# Altium schematic symbol library ST_GND_Sch.SchLib: 106 symbols
Pins are listed as number, name and electrical type; pins without a type are passive.

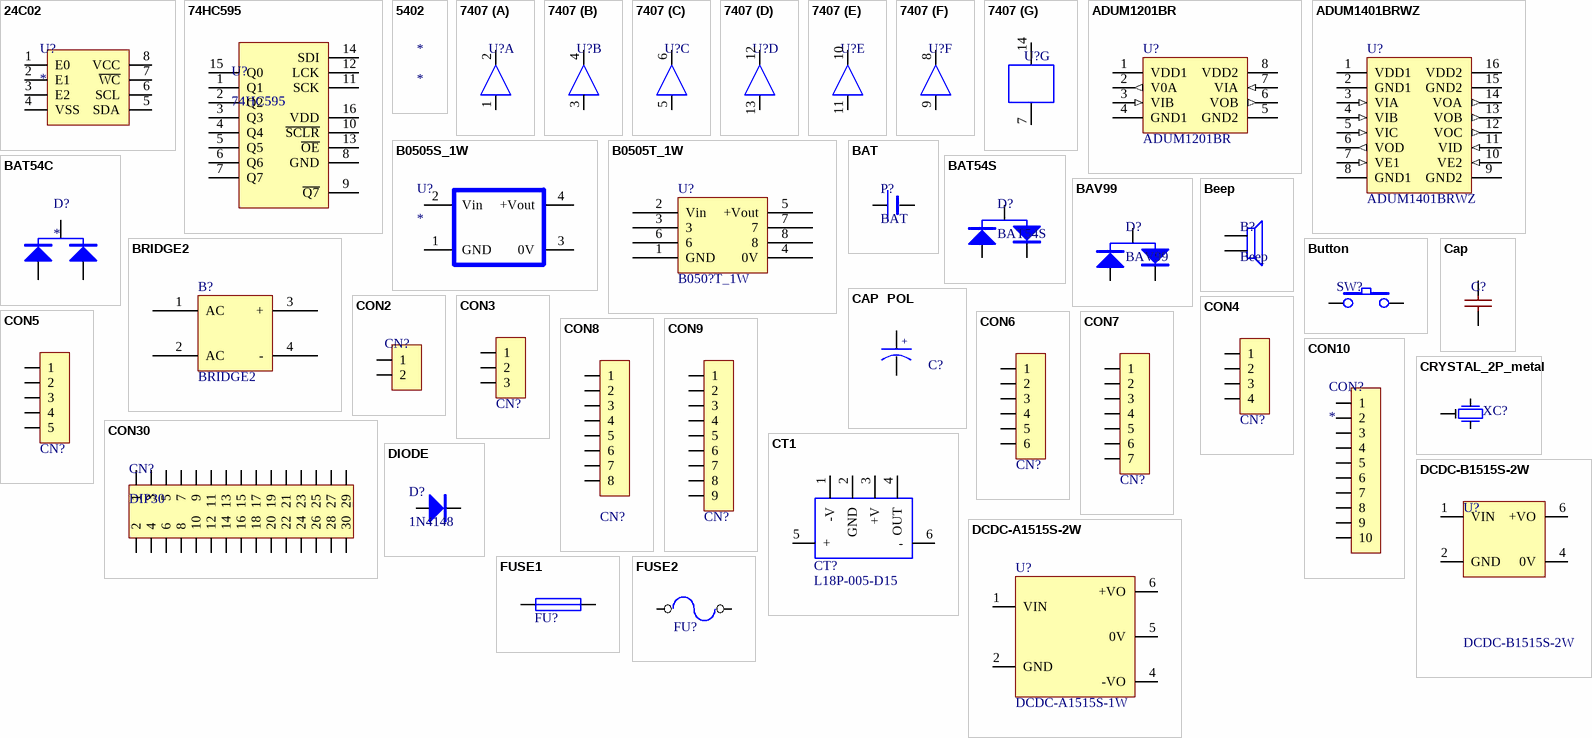
[diagram p0: symbols 24C02 to FUSE2]

## 24C02
designator U?
存储芯片
footprint 运放SO8 (Smal)
pins: 1 E0, 2 E1, 3 E2, 4 VSS, 5 SDA, 6 SCL, 7 ~{WC}, 8 VCC

## 74HC595
designator U?
集成块
footprint 运放SOP16 (Small Outli)
footprint TSSOP16_44MM_065P
pins: 1 Q1, 2 Q2, 3 Q3, 4 Q4, 5 Q5, 6 Q6, 7 Q7, 8 GND, 9 ~{Q7}, 10 ~{SCLR}, 11 SCK, 12 LCK, 13 ~{OE}, 14 SDI, 15 Q0, 16 VDD

## 5402
designator *

## 7407
designator U?
电平转换; 研究所: *
footprint 运放SO14 (Smal)
part A pins: 1 A1, 2 Y1
part B pins: 3, 4
part C pins: 5 A3, 6 Y3
part D pins: 12 Y6, 13 A6
part E pins: 10 Y5, 11 A5
part F pins: 8 Y4, 9 A4
part G pins: 7 GND, 14 VCC

## ADUM1201BR
designator U?
Quad-Channel Digital Isolators; 编号: B00212; 名称: 贴装芯片_ADUM1201BR
footprint SOIC127P600X175-8M
pins: 1 VDD1 (power), 2 V0A (out), 3 VIB (in), 4 GND1 (power), 5 GND2 (power), 6 VOB (out), 7 VIA (in), 8 VDD2 (power)

## ADUM1401BRWZ
designator U?
Quad-Channel Digital Isolators; 编号: B00174; 名称: 贴装芯片_ADUM1401BRWZ
footprint SOIC127P1030X265-16M
pins: 1 VDD1 (power), 2 GND1 (power), 3 VIA (in), 4 VIB (in), 5 VIC (in), 6 VOD (out), 7 VE1 (in), 8 GND1 (power), 9 GND2 (power), 10 VE2 (in), 11 VID (in), 12 VOC (out), 13 VOB (out), 14 VOA (out), 15 GND2 (power), 16 VDD2 (power)

## B0505S_1W
designator U?
footprint B0505S_1W
pins: 1 GND, 2 Vin, 3 0V, 4 +Vout

## B0505T_1W
designator U?, comment B050?T_1W
footprint B_X_T_1W (1WDC-DC模块)
pins: 1 GND, 2 Vin, 3, 4 0V, 5 +Vout, 6, 7, 8

## BAT
designator P?
footprint CR1220
footprint CR1220
pins: 1 +, 2 -

## BAT54C
designator D?
footprint SOT-23
pins: 1, 2, 3

## BAT54S
designator D?
保护二极管
footprint SOT-23
pins: 1, 2, 3

## BAV99
designator D?
保护二极管
footprint SOT-23
pins: 1, 2, 3

## Beep
designator B?
蜂鸣器
footprint BEEP (12*9)
pins: 1, 2

## BRIDGE2
designator B?
整流桥
footprint 桥堆 407
footprint 桥堆GBJ250X
footprint 桥堆KBPC250X
pins: 1 AC, 2 AC, 3 +, 4 -

## Button
designator SW?  (value not drawn)
按键12*12*7.3
footprint 按键12*12*7.3
footprint SW2_12x12 (欧姆龙按钮)
footprint SW4 (按钮侧立式)
pins: 1, 2

## Cap
designator C?
footprint 电容5
pins: 1, 2

## CAP  POL
designator C?
电解电容; Value: R1HCX010MT50
footprint 电解电容-5
footprint 电解电容-2200
footprint Case B (CaseB_3528)
footprint HONOR_10X105 (贴装铝电解)
footprint HONOR_63X54
footprint CASE C
footprint 电解电容 18*18
footprint 电解电容-10
footprint 电解电容-12
footprint 电解电容10-1
footprint Case D (CaseD_7343)
footprint CASE A (3216)
pins: 1, 2
text: +

## CON2
designator CN?
连接器; 松下: B2PVHB
footprint 连接器DD2
footprint WJ128V-2P
footprint WJ15EDGRM-3.81-2P-14-00A
pins: 1, 2

## CON3
designator CN?
连接器; 松下: B3PVHB
footprint 连接器DD3
footprint WJ128V-3P
footprint 连接器3X
footprint WJ15EDGRM-3.81-3P-14-00A (3.81间距端子 3p)
footprint DIP3
pins: 1, 2, 3

## CON4
designator CN?
连接器; 松下: B4PVHB
footprint 连接器DD4
footprint WJ15EDGRM-3.81-4P-14-00A
pins: 1, 2, 3, 4

## CON5
designator CN?
连接器; 松下: B5PVHB; 松下: B5BXH2TV4
footprint 连接器DD5
footprint 连接器5X
footprint WJ15EDGRM-3.81-5P
pins: 1, 2, 3, 4, 5

## CON6
designator CN?
连接器; 松下: B6BXH2TV4; 松下: B6PVHB
footprint 连接器DD6
footprint 连接器6X
footprint WJ15EDGRM-3.81-6P
pins: 1, 2, 3, 4, 5, 6

## CON7
designator CN?
连接器; 松下: B7PVHB; 松下: B6BXH2TV4
footprint 连接器DD7
footprint 连接器7X
footprint WJ15EDGRM-3.81-7P
pins: 1, 2, 3, 4, 5, 6, 7

## CON8
designator CN?
连接器; 松下: B9PVHB
footprint 连接器8X
footprint WJ15EDGRM-3.81-8P
pins: 1, 2, 3, 4, 5, 6, 7, 8

## CON9
designator CN?
连接器; 松下: B9PVHB
footprint 连接器DD9
footprint 连接器9X
pins: 1, 2, 3, 4, 5, 6, 7, 8, 9

## CON10
designator CON?
footprint WJ15EDGRM-3.81-10P
pins: 1, 2, 3, 4, 5, 6, 7, 8, 9, 10

## CON30
designator CN?, comment DIP30
自检接口
footprint DIP15*2
pins: 1, 2, 3, 4, 5, 6, 7, 8, 9, 10, 11, 12, 13, 14, 15, 16, 17, 18, 19, 20, 21, 22, 23, 24, 25, 26, 27, 28, 29, 30

## CRYSTAL_2P_metal
designator XC?, comment Farnell order no:1539364  (value not drawn)
32k768 crystal, +-20ppm, CL=7pF, max ESR 60kOhm, SMD; PartGroup: Frequency devices,Crystals,SMD; Manufacturer: Micro Crystal; MPN: MS1V-T1K 32.768kHz 7pF +/-20PPM TA; AN: A07-0052; Tolerance: +/- 20 PPM; TemperatureRange: -40 /+85; Height: 2.07999992370605
footprint 32.768k
pins: 1, 2, 3

## CT1
designator CT?, comment L18P-005-D15
电流传感器
footprint CT - L18P005
pins: 1 -V, 2 GND, 3 +V, 4 OUT, 5 +, 6 -

## DCDC-A1515S-2W
designator U?, comment DCDC-A1515S-1W
隔离电源模块
footprint DCDC-AS2W
pins: 1 VIN, 2 GND, 4 -VO, 5 0V, 6 +VO

## DCDC-B1515S-2W
designator U?
隔离电源模块
footprint DCDC-BS2W
pins: 1 VIN, 2 GND, 4 0V, 6 +VO

## DIODE
designator D?, comment 1N4148
二极管
footprint 二极管SOD-123
footprint 发光二极管0805
footprint 二极管SMA (Magnetic-Core Inductor with Windin)
footprint MUR
footprint 二极管12AK
footprint 二极管SMC
pins: A, K

## FUSE1
designator FU?  (value not drawn)
保险
footprint BX
footprint BLX5*20
footprint RAD0.2 (压敏电阻10d)
pins: 1, 2

## FUSE2
designator FU?  (value not drawn)
可恢复保险
footprint 0805_SMD_R
footprint 1210
pins: 1, 2

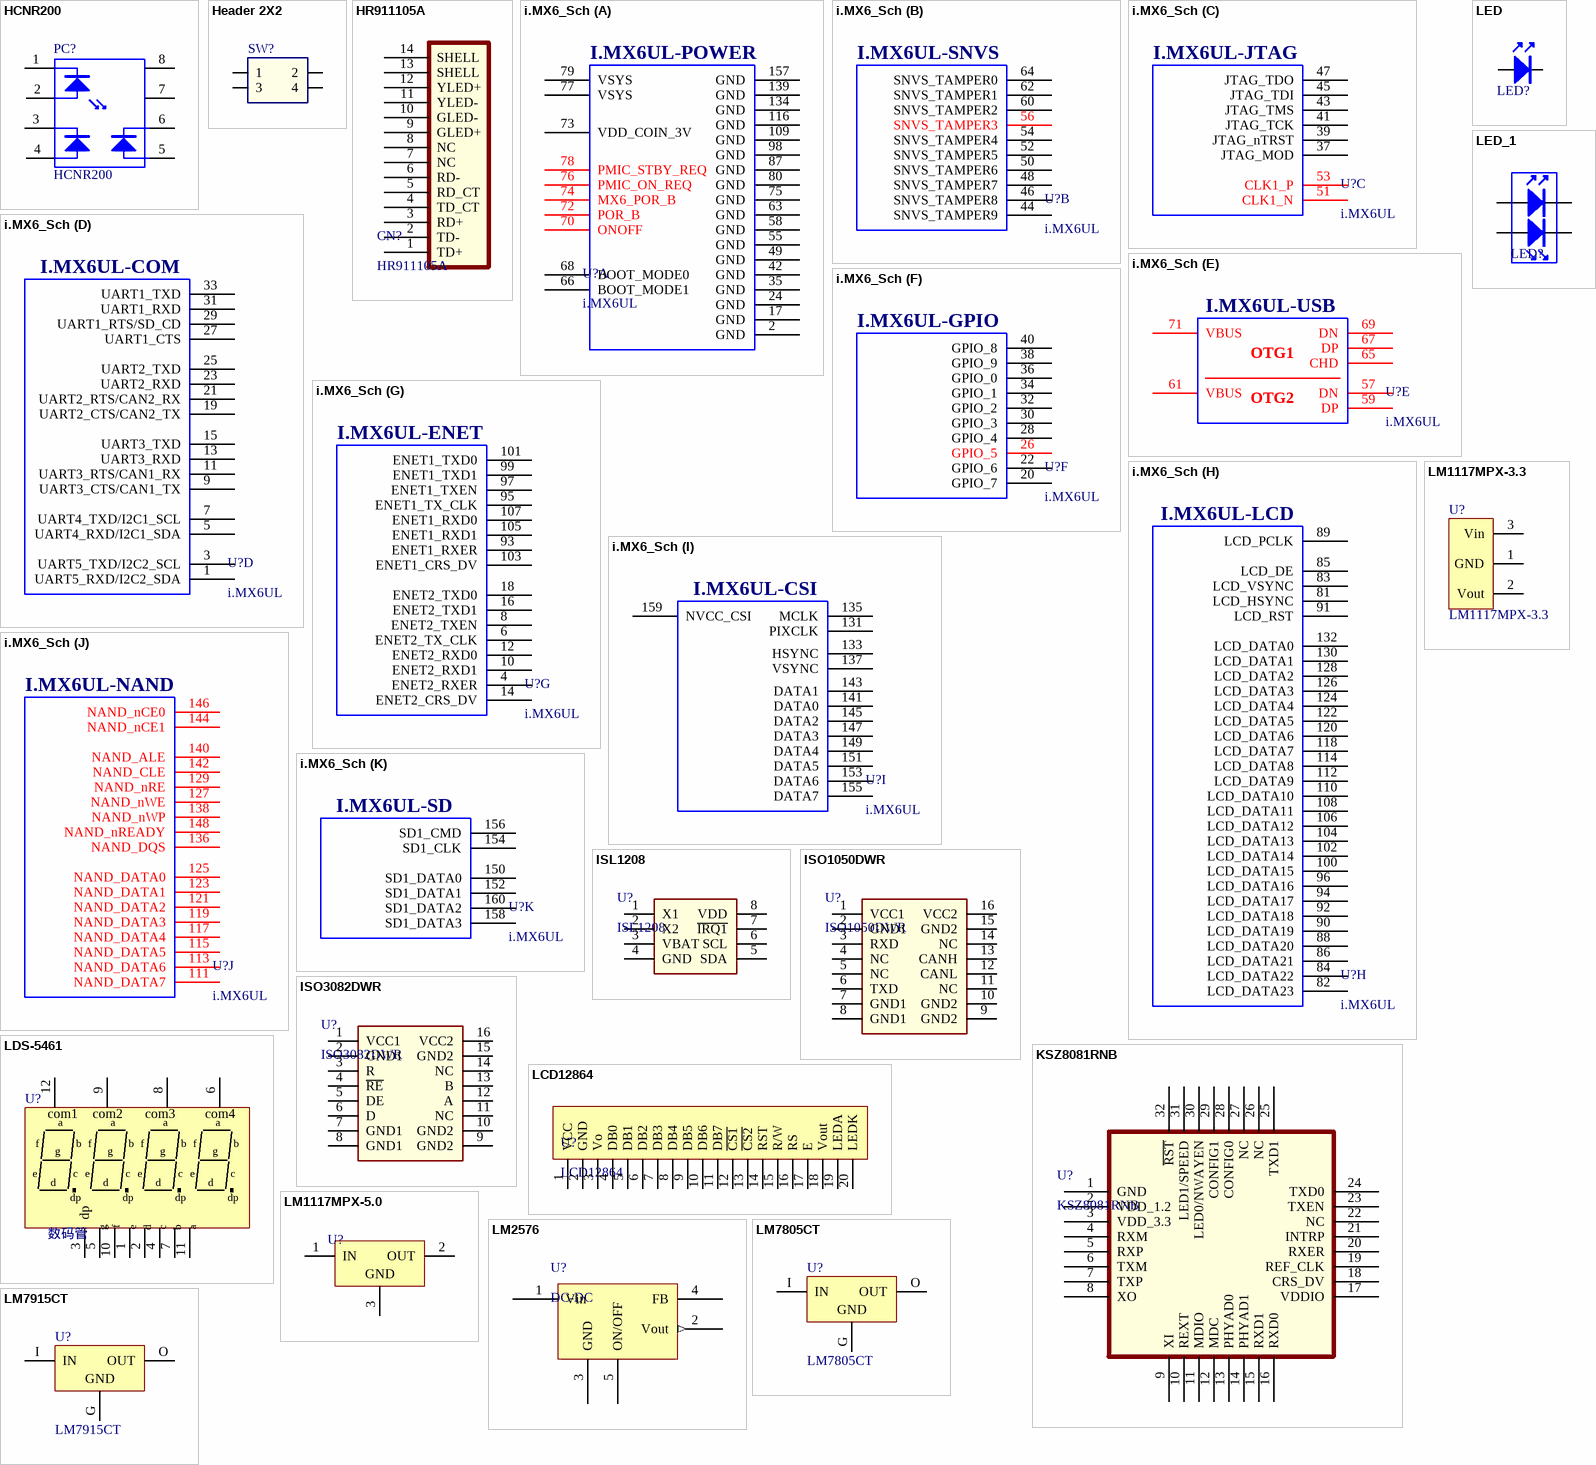
[diagram p1: symbols HCNR200 to LM7915CT]

## HCNR200
designator PC?
线性光耦
footprint HCNR200
pins: 1, 2, 3, 4, 5, 6, 7 NC, 8 NC

## Header 2X2
designator SW?  (value not drawn)
Header, 2-Pin, Dual row; LatestRevisionDate: 17-Jul-2002; LatestRevisionNote: Re-released for DXP Platform.; Publisher: Altium Limited
footprint HDR2X2 (Connector; Header; 2x2 Position)
signal-integrity model Connector
footprint 开关2-2
footprint Model Name (Footprint not found)
pins: 1, 2, 3, 4

## HR911105A
designator CN?
footprint RJ-45A12
pins: 1 TD+, 2 TD-, 3 RD+, 4 TD_CT, 5 RD_CT, 6 RD-, 7 NC, 8 NC, 9 GLED+, 10 GLED-, 11 YLED-, 12 YLED+, 13 SHELL, 14 SHELL

## i.MX6_Sch
designator U?, comment i.MX6UL
footprint i.MX6_PCB
part A pins: 2 GND, 17 GND, 24 GND, 35 GND, 42 GND, 49 GND, 55 GND, 58 GND, 63 GND, 66 BOOT_MODE1, 68 BOOT_MODE0, 70 ONOFF, 72 POR_B, 73 VDD_COIN_3V, 74 MX6_POR_B, 75 GND, 76 PMIC_ON_REQ, 77 VSYS, 78 PMIC_STBY_REQ, 79 VSYS, 80 GND, 87 GND, 98 GND, 109 GND, 116 GND, 134 GND, 139 GND, 157 GND
part B pins: 44 SNVS_TAMPER9, 46 SNVS_TAMPER8, 48 SNVS_TAMPER7, 50 SNVS_TAMPER6, 52 SNVS_TAMPER5, 54 SNVS_TAMPER4, 56 SNVS_TAMPER3, 60 SNVS_TAMPER2, 62 SNVS_TAMPER1, 64 SNVS_TAMPER0
part C pins: 37 JTAG_MOD, 39 JTAG_nTRST, 41 JTAG_TCK, 43 JTAG_TMS, 45 JTAG_TDI, 47 JTAG_TDO, 51 CLK1_N, 53 CLK1_P
part D pins: 1 UART5_RXD/I2C2_SDA, 3 UART5_TXD/I2C2_SCL, 5 UART4_RXD/I2C1_SDA, 7 UART4_TXD/I2C1_SCL, 9 UART3_CTS/CAN1_TX, 11 UART3_RTS/CAN1_RX, 13 UART3_RXD, 15 UART3_TXD, 19 UART2_CTS/CAN2_TX, 21 UART2_RTS/CAN2_RX, 23 UART2_RXD, 25 UART2_TXD, 27 UART1_CTS, 29 UART1_RTS/SD_CD, 31 UART1_RXD, 33 UART1_TXD
part E pins: 57 DN, 59 DP, 61 VBUS, 65 CHD, 67 DP, 69 DN, 71 VBUS
part F pins: 20 GPIO_7, 22 GPIO_6, 26 GPIO_5, 28 GPIO_4, 30 GPIO_3, 32 GPIO_2, 34 GPIO_1, 36 GPIO_0, 38 GPIO_9, 40 GPIO_8
part G pins: 4 ENET2_RXER, 6 ENET2_TX_CLK, 8 ENET2_TXEN, 10 ENET2_RXD1, 12 ENET2_RXD0, 14 ENET2_CRS_DV, 16 ENET2_TXD1, 18 ENET2_TXD0, 93 ENET1_RXER, 95 ENET1_TX_CLK, 97 ENET1_TXEN, 99 ENET1_TXD1, 101 ENET1_TXD0, 103 ENET1_CRS_DV, 105 ENET1_RXD1, 107 ENET1_RXD0
part H pins: 81 LCD_HSYNC, 82 LCD_DATA23, 83 LCD_VSYNC, 84 LCD_DATA22, 85 LCD_DE, 86 LCD_DATA21, 88 LCD_DATA20, 89 LCD_PCLK, 90 LCD_DATA19, 91 LCD_RST, 92 LCD_DATA18, 94 LCD_DATA17, 96 LCD_DATA16, 100 LCD_DATA15, 102 LCD_DATA14, 104 LCD_DATA13, 106 LCD_DATA12, 108 LCD_DATA11, 110 LCD_DATA10, 112 LCD_DATA9, 114 LCD_DATA8, 118 LCD_DATA7, 120 LCD_DATA6, 122 LCD_DATA5, 124 LCD_DATA4, 126 LCD_DATA3, 128 LCD_DATA2, 130 LCD_DATA1, 132 LCD_DATA0
part I pins: 131 PIXCLK, 133 HSYNC, 135 MCLK, 137 VSYNC, 141 DATA0, 143 DATA1, 145 DATA2, 147 DATA3, 149 DATA4, 151 DATA5, 153 DATA6, 155 DATA7, 159 NVCC_CSI
part J pins: 111 NAND_DATA7, 113 NAND_DATA6, 115 NAND_DATA5, 117 NAND_DATA4, 119 NAND_DATA3, 121 NAND_DATA2, 123 NAND_DATA1, 125 NAND_DATA0, 127 NAND_nWE, 129 NAND_nRE, 136 NAND_DQS, 138 NAND_nWP, 140 NAND_ALE, 142 NAND_CLE, 144 NAND_nCE1, 146 NAND_nCE0, 148 NAND_nREADY
part K pins: 150 SD1_DATA0, 152 SD1_DATA1, 154 SD1_CLK, 156 SD1_CMD, 158 SD1_DATA3, 160 SD1_DATA2
part A text: I.MX6UL-POWER
part B text: I.MX6UL-SNVS
part C text: I.MX6UL-JTAG
part D text: I.MX6UL-COM
part E text: I.MX6UL-USB; OTG1; OTG2
part F text: I.MX6UL-GPIO
part G text: I.MX6UL-ENET
part H text: I.MX6UL-LCD
part I text: I.MX6UL-CSI
part J text: I.MX6UL-NAND
part K text: I.MX6UL-SD

## ISL1208
designator U?
时钟芯片
footprint 运放SO8 (Smal)
pins: 1 X1, 2 X2, 3 VBAT, 4 GND, 5 SDA, 6 SCL, 7 ~{IR}~{Q1}, 8 VDD

## ISO1050DWR
designator U?
CAN隔离芯片
footprint SOIC_16
pins: 1 VCC1, 2 GND1, 3 RXD, 4 NC, 5 NC, 6 TXD, 7 GND1, 8 GND1, 9 GND2, 10 GND2, 11 NC, 12 CANL, 13 CANH, 14 NC, 15 GND2, 16 VCC2

## ISO3082DWR
designator U?
485隔离芯片
footprint SOIC_16
pins: 1 VCC1, 2 GND1, 3 R, 4 ~{RE}, 5 DE, 6 D, 7 GND1, 8 GND1, 9 GND2, 10 GND2, 11 NC, 12 A, 13 B, 14 NC, 15 GND2, 16 VCC2

## KSZ8081RNB
designator U?
footprint LC-QFN-32_5x5x05P
pins: 1 GND, 2 VDD_1.2, 3 VDD_3.3 (power), 4 RXM, 5 RXP, 6 TXM, 7 TXP, 8 XO, 9 XI, 10 REXT, 11 MDIO, 12 MDC, 13 PHYAD0, 14 PHYAD1, 15 RXD1, 16 RXD0, 17 VDDIO, 18 CRS_DV, 19 REF_CLK, 20 RXER, 21 INTRP, 22 NC, 23 TXEN, 24 TXD0, 25 TXD1, 26 NC, 27 NC, 28 CONFIG0, 29 CONFIG1, 30 LED0/NWAYEN, 31 LED1/SPEED, 32 ~{RST}

## LCD12864
designator U?
footprint 12864液晶
pins: 1 VCC (power), 2 GND (power), 3 Vo, 4 DB0, 5 DB1, 6 DB2, 7 DB3, 8 DB4, 9 DB5, 10 DB6, 11 DB7, 12 ~{CS1}, 13 ~{CS2}, 14 RST, 15 R/W, 16 RS, 17 E, 18 Vout (power), 19 LEDA, 20 LEDK

## LDS-5461
designator U?, comment 数码管
数码管8位共阴
footprint 数码管共阴4位
pins: 1 e, 2 d, 3 dp, 4 c, 5 g, 6 com4, 7 b, 8 com3, 9 com2, 10 f, 11 a, 12 com1

## LED
designator LED?  (value not drawn)
发光二极管
footprint 发光二极管
footprint LED_0805
footprint 发光二极管0805
footprint 1206 -LED
pins: A, K

## LED_1
designator LED?  (value not drawn)
发光二极管
footprint DIP LED (双led)
pins: 1, 2, 3, 4

## LM1117MPX-3.3
designator U?
LM1117 3.3V固定输出; 编号: B00004; 名称: 贴装芯片_LM1117MPX-3.3
footprint SOT-223
pins: 1 GND, 2 Vout, 3 Vin

## LM1117MPX-5.0
designator U?  (value not drawn)
贴片三端稳压芯片; 研究所: LM1117MPX-5.0
footprint SOT-223
pins: 1 IN (power), 2 OUT (power), 3 GND (power)

## LM2576
designator U?, comment DC-DC
footprint TO-263-5L
pins: 1 Vin (power), 2 Vout (out), 3 GND (power), 4 FB, 5 ON/OFF

## LM7805CT
designator U?
Series 3-Terminal Positive Regulator; Note: Tab is connected to GND; Published: 15-Apr-2002; DatasheetVersion: May-1999; PackageVersion: 1995; PackageReference: T03B; Publisher: Altium Limited; PackageDescription: TO, Thru-Hole, Vertical, Heatsink Mounted; 3 In-Line Leads; Pitch 2.54 mm; ComponentLink1Description: Manufacturer Link; ComponentLink1URL: http://www.national.com/; ComponentLink2Description: Datasheet; ComponentLink2URL: http://www.national.com/ds.cgi/LM/LM7512C.pdf; ComponentLink3Description: URL Link1; ComponentLink3URL: http://www.national.com/pf/LM/LM7805C.html
footprint 稳压块-S-78XX
footprint 稳压块-78XX
footprint K7805
pins: G GND (power), I IN (power), O OUT (power)

## LM7915CT
designator U?
3-Terminal Negative Regulator; Note: Tab is connected to Input; Published: 15-Apr-2002; DatasheetVersion: Jun-1999; PackageVersion: 1995; PackageReference: T03B; Publisher: Altium Limited; PackageDescription: TO, Thru-Hole, Vertical, Heatsink Mounted; 3 In-Line Leads; Pitch 2.54 mm; ComponentLink1Description: Manufacturer Link; ComponentLink1URL: http://www.national.com/; ComponentLink2Description: Datasheet; ComponentLink2URL: http://www.national.com/ds.cgi/LM/LM7905.pdf; ComponentLink3Description: URL Link1; ComponentLink3URL: http://www.national.com/pf/LM/LM7915.html
footprint 稳压块-S-79XX
footprint 稳压块79XX
pins: G GND (power), I IN (power), O OUT (power)

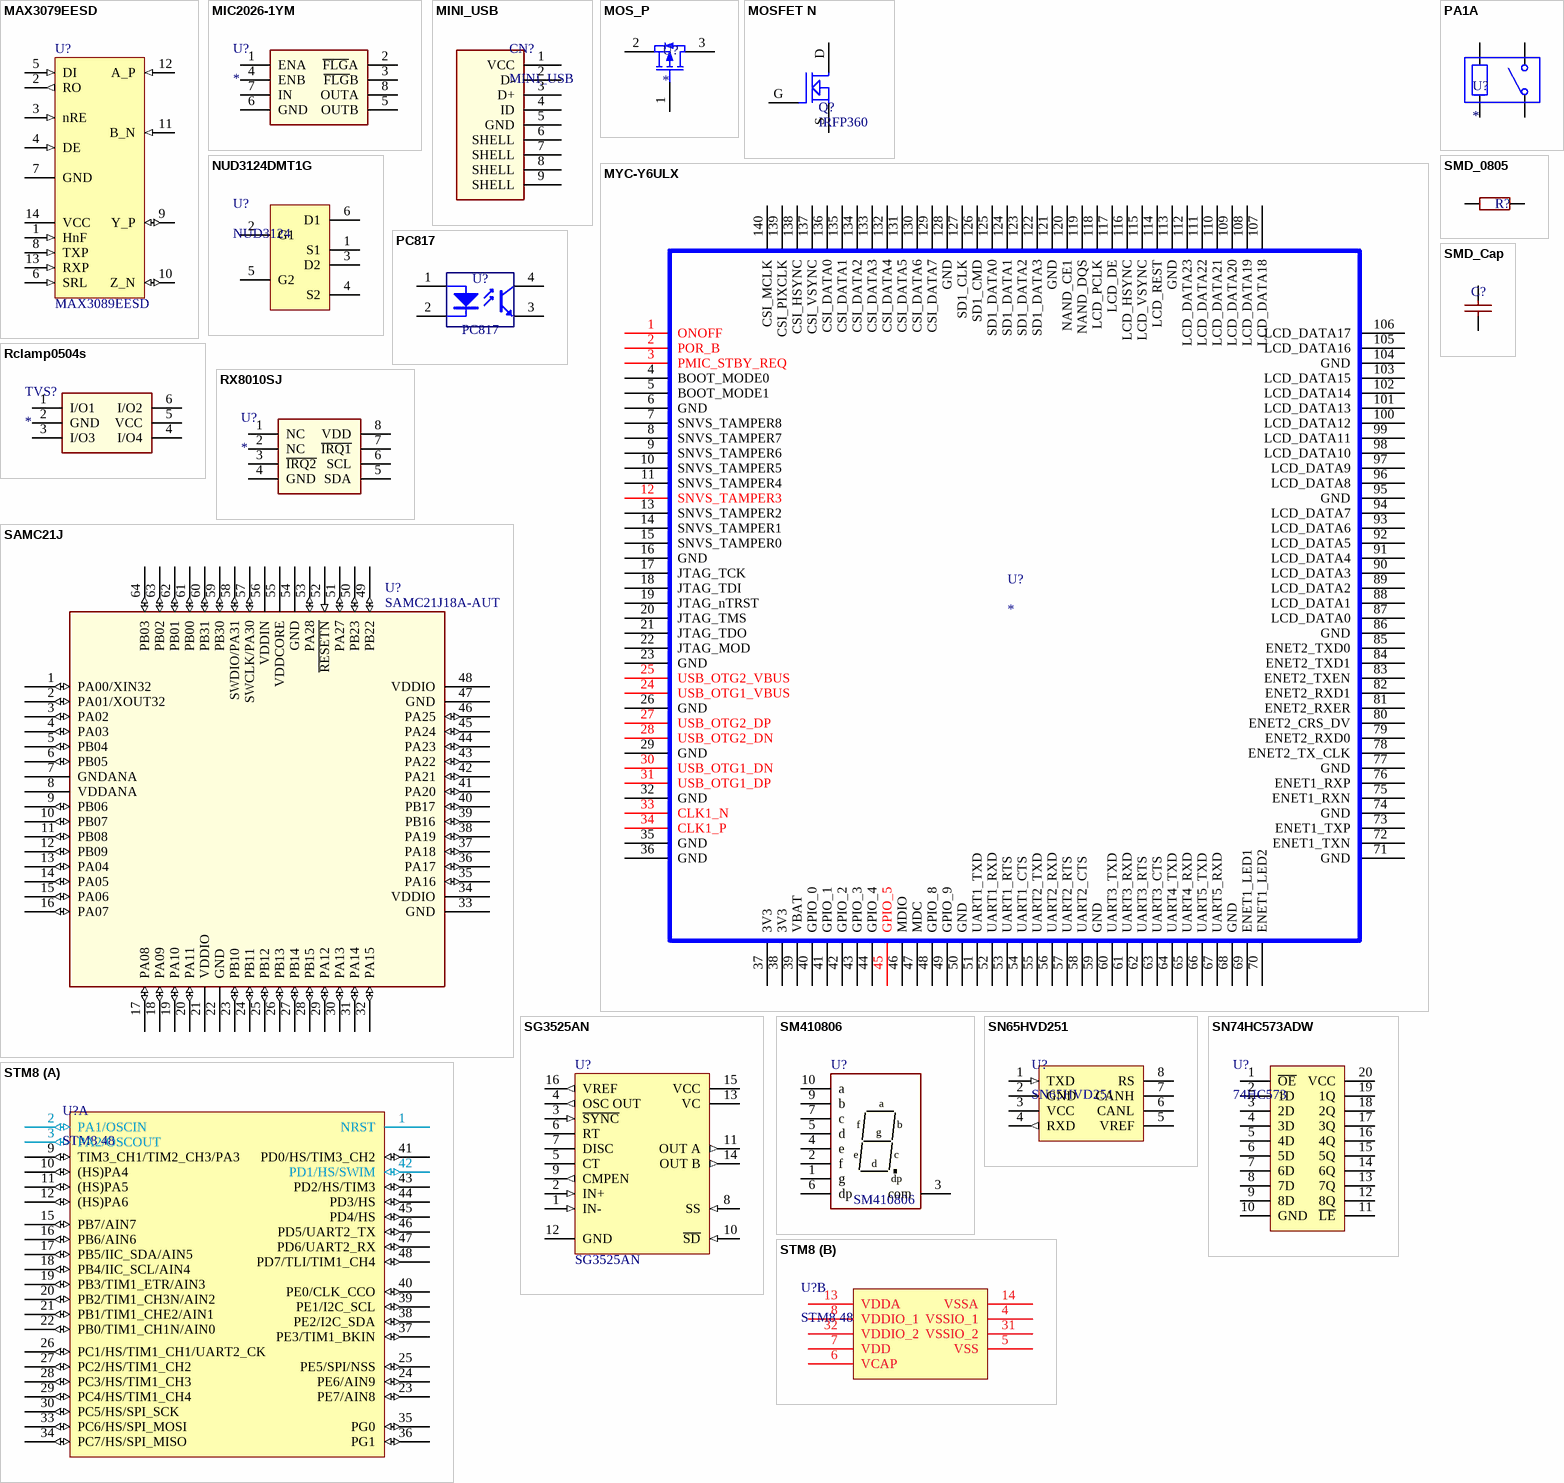
[diagram p2: symbols MAX3079EESD to STM8]

## MAX3079EESD
designator U?, comment MAX3089EESD
贴装芯片_MAX3089EESD; 名称: 贴装芯片_MAX3089EESD
footprint 运放SO14 (Smal)
pins: 1 HnF (in), 2 RO (out), 3 nRE (in), 4 DE (in), 5 DI (in), 6 SRL (in), 7 GND (power), 8 TXP (in), 9 Y_P (io), 10 Z_N (io), 11 B_N (in), 12 A_P (in), 13 RXP (in), 14 VCC (power)

## MIC2026-1YM
designator U?
footprint 运放SO8 (Smal)
pins: 1 ENA, 2 ~{FLG}A, 3 ~{FLG}B, 4 ENB, 5 OUTB, 6 GND, 7 IN, 8 OUTA

## MINI_USB
designator CN?
footprint MiNi_USB
footprint MICRO_USB
footprint MICRO-USB-F (立式USB座)
pins: 1 VCC (power), 2 D-, 3 D+, 4 ID, 5 GND (power), 6 SHELL, 7 SHELL, 8 SHELL, 9 SHELL

## MOS_P
designator U?
footprint SOT-23
pins: 1 G, 2 S, 3 D

## MOSFET N
designator Q?, comment IRFP360
MOS管
footprint 稳压块-S-MOS
footprint TO-252-2L
footprint 稳压块-MOS
footprint S-MOS大散热器
footprint 稳压块-S-MOS-540
footprint SOT-23 - MOS
pins: D DRAIN, G GATE, S SOURCE

## MYC-Y6ULX
designator U?
footprint MYIMX6
pins: 1 ONOFF, 2 POR_B, 3 PMIC_STBY_REQ, 4 BOOT_MODE0, 5 BOOT_MODE1, 6 GND, 7 SNVS_TAMPER8, 8 SNVS_TAMPER7, 9 SNVS_TAMPER6, 10 SNVS_TAMPER5, 11 SNVS_TAMPER4, 12 SNVS_TAMPER3, 13 SNVS_TAMPER2, 14 SNVS_TAMPER1, 15 SNVS_TAMPER0, 16 GND, 17 JTAG_TCK, 18 JTAG_TDI, 19 JTAG_nTRST, 20 JTAG_TMS, 21 JTAG_TDO, 22 JTAG_MOD, 23 GND, 24 USB_OTG1_VBUS, 25 USB_OTG2_VBUS, 26 GND, 27 USB_OTG2_DP, 28 USB_OTG2_DN, 29 GND, 30 USB_OTG1_DN, 31 USB_OTG1_DP, 32 GND, 33 CLK1_N, 34 CLK1_P, 35 GND, 36 GND, 37 3V3, 38 3V3, 39 VBAT, 40 GPIO_0, 41 GPIO_1, 42 GPIO_2, 43 GPIO_3, 44 GPIO_4, 45 GPIO_5, 46 MDIO, 47 MDC, 48 GPIO_8, 49 GPIO_9, 50 GND, 51 UART1_TXD, 52 UART1_RXD, 53 UART1_RTS, 54 UART1_CTS, 55 UART2_TXD, 56 UART2_RXD, 57 UART2_RTS, 58 UART2_CTS, 59 GND, 60 UART3_TXD, 61 UART3_RXD, 62 UART3_RTS, 63 UART3_CTS, 64 UART4_TXD, 65 UART4_RXD, 66 UART5_TXD, 67 UART5_RXD, 68 GND, 69 ENET1_LED1, 70 ENET1_LED2, 71 GND, 72 ENET1_TXN, 73 ENET1_TXP, 74 GND, 75 ENET1_RXN, 76 ENET1_RXP, 77 GND, 78 ENET2_TX_CLK, 79 ENET2_RXD0, 80 ENET2_CRS_DV, 81 ENET2_RXER, 82 ENET2_RXD1, 83 ENET2_TXEN, 84 ENET2_TXD1, 85 ENET2_TXD0, 86 GND, 87 LCD_DATA0, 88 LCD_DATA1, 89 LCD_DATA2, 90 LCD_DATA3, 91 LCD_DATA4, 92 LCD_DATA5, 93 LCD_DATA6, 94 LCD_DATA7, 95 GND, 96 LCD_DATA8, 97 LCD_DATA9, 98 LCD_DATA10, 99 LCD_DATA11, 100 LCD_DATA12, 101 LCD_DATA13, 102 LCD_DATA14, 103 LCD_DATA15, 104 GND, 105 LCD_DATA16, 106 LCD_DATA17, 107 LCD_DATA18, 108 LCD_DATA19, 109 LCD_DATA20, 110 LCD_DATA21, 111 LCD_DATA22, 112 LCD_DATA23, 113 GND, 114 LCD_REST, 115 LCD_VSYNC, 116 LCD_HSYNC, 117 LCD_DE, 118 LCD_PCLK, 119 NAND_DQS, 120 NAND_CE1, 121 GND, 122 SD1_DATA3, 123 SD1_DATA2, 124 SD1_DATA1, 125 SD1_DATA0, 126 SD1_CMD, 127 SD1_CLK, 128 GND, 129 CSI_DATA7, 130 CSI_DATA6, 131 CSI_DATA5, 132 CSI_DATA4, 133 CSI_DATA3, 134 CSI_DATA2, 135 CSI_DATA1, 136 CSI_DATA0, 137 CSI_VSYNC, 138 CSI_HSYNC, 139 CSI_PIXCLK, 140 CSI_MCLK

## NUD3124DMT1G
designator U?, comment NUD3124
footprint SC74-6L
pins: 1 S1, 2 G1, 3 D2, 4 S2, 5 G2, 6 D1

## PA1A
designator U?
footprint PA1A (5V继电器)
pins: 1, 2, 3, 4

## PC817
designator U?
光耦
footprint SO6
pins: 1, 2, 3, 4

## Rclamp0504s
designator TVS?
footprint SC70-6L
pins: 1 I/O1, 2 GND, 3 I/O3, 4 I/O4, 5 VCC, 6 I/O2

## RX8010SJ
designator U?
footprint 运放SO8 (Smal)
pins: 1 NC, 2 NC, 3 ~{IRQ2}, 4 GND, 5 SDA, 6 SCL, 7 ~{IR}~{Q1}, 8 VDD

## SAMC21J
designator U?  value SAMC21J18A-AUT  (hidden comment: SAMC21J)
Atmel 32-bit RISC MCU 64pin; PartGroup: Integrated Circuits,MCU, MPU, DSP,ARM MCU; AN: A06-1192; TemperatureRange: -40Â°C to +105Â°C; Design comment: *; Height: 1.20000004768372; Manufacturer: ATMEL; MPN: SAMC21J18A-AUT
footprint LQFP64 (TSQFP, 64-Leads, Body 12.0x12.0mm (max), Pitch 0.50mm, IPC Medium Density)
pins: 1 PA00/XIN32 (io), 2 PA01/XOUT32 (io), 3 PA02 (io), 4 PA03 (io), 5 PB04 (io), 6 PB05 (io), 7 GNDANA (power), 8 VDDANA (power), 9 PB06 (io), 10 PB07 (io), 11 PB08 (io), 12 PB09 (io), 13 PA04 (io), 14 PA05 (io), 15 PA06 (io), 16 PA07 (io), 17 PA08 (io), 18 PA09 (io), 19 PA10 (io), 20 PA11 (io), 21 VDDIO (power), 22 GND (power), 23 PB10 (io), 24 PB11 (io), 25 PB12 (io), 26 PB13 (io), 27 PB14 (io), 28 PB15 (io), 29 PA12 (io), 30 PA13 (io), 31 PA14 (io), 32 PA15 (io), 33 GND (power), 34 VDDIO (power), 35 PA16 (io), 36 PA17 (io), 37 PA18 (io), 38 PA19 (io), 39 PB16 (io), 40 PB17 (io), 41 PA20 (io), 42 PA21 (io), 43 PA22 (io), 44 PA23 (io), 45 PA24 (io), 46 PA25 (io), 47 GND (power), 48 VDDIO (power), 49 PB22 (io), 50 PB23 (io), 51 PA27 (io), 52 ~{RESETN} (in), 53 PA28 (io), 54 GND (power), 55 VDDCORE (power), 56 VDDIN (power), 57 SWCLK/PA30 (io), 58 SWDIO/PA31 (io), 59 PB30 (io), 60 PB31 (io), 61 PB00 (io), 62 PB01 (io), 63 PB02 (io), 64 PB03 (io)

## SG3525AN
designator U?
集成块
footprint SOIC_16
pins: 1 IN- (in), 2 IN+ (in), 3 ~{SYNC} (in), 4 OSC OUT (out), 5 CT, 6 RT, 7 DISC (oc), 8 SS (in), 9 CMPEN (out), 10 ~{SD} (in), 11 OUT A (out), 12 GND (power), 13 VC (power), 14 OUT B (out), 15 VCC (power), 16 VREF (out)

## SM410806
designator U?
CP-SM410806
footprint 数码管 (研究所2.54 13*10)
pins: 1 g, 2 f, 3 com, 4 e, 5 d, 6 dp, 7 c, 9 b, 10 a

## SMD_0805
designator R?
贴片电阻; 松下: RS05K101FT; 松下: RS05000FT; 松下: RS05K3321FT; 松下: RS05K6811FT; 松下: RS05K102FT; 松下: RS05K2211FT; 松下: RS05K103FT; 松下: RS05K5111FT; 松下: RS05K5110FT; 松下: RS05K5112FT; 松下: RS05K8251FT; 松下: RS05K2212FT; 松下: RS05K104FT; 松下: RS05K5113FT; 松下: RS05K105FT; 松下: RS05L106FT; 研究所: 贴装电阻_0805_0_F1%; 研究所: 贴装电阻_0805_100_F1%; 研究所: 贴装电阻_0805_51.1K_F1%; 研究所: 贴装电阻_0805_1K_F1%; 研究所: 贴装电阻_0805_2.21K_F1%; 研究所: 贴装电阻_0805_3.32K_F1%; 研究所: 贴装电阻_0805_5.11K_F1%; 研究所: 贴装电阻_0805_511K_F1%; 研究所: 贴装电阻_0805_6.81K_F1%; 研究所: 贴装电阻_0805_511_F1%; 研究所: 贴装电阻_0805_8.25K_F1%; 研究所: 贴装电阻_0805_10K_F1%; 研究所: 贴装电阻_0805_22.1K_F1%; 研究所: 贴装电阻_0805_100K_F1%; 研究所: 贴装电阻_0805_1M_F1%; 研究所: 贴装电阻_0805_10M_F1%
footprint 0805_SMD_R
footprint 1206
pins: 1, 2

## SMD_Cap
designator C?
贴片电容; 研究所: 贴装电容_0805_0.1uF; 松下: GR21BB1H104K; 松下: GR21BB1H224K; 松下: GR21BB1H103K; 研究所: 贴装电容_0805_0.22uF; 研究所: 贴装电容_0805_0.01uF; 松下: GR21BB1H473K; 研究所: 贴装电容_0805_0.047uF; 松下: GR21BB1H300K; 研究所: 贴装电容_0805_30pF; 松下: GR21BB1H105K; 研究所: 贴装电容_0805_1uF; 松下: GR21BB1H472K; 研究所: 贴装电容_0805_4700pF
footprint 0805SMD_Cap
footprint 1206
pins: 1, 2

## SN65HVD251
designator U?
footprint SOIC127P600X175-8M
pins: 1 TXD (in), 2 GND (power), 3 VCC (power), 4 RXD (out), 5 VREF (power), 6 CANL (hiz), 7 CANH (hiz), 8 RS (power)

## SN74HC573ADW
designator U?, comment 74HC573
footprint SOIC20_75MM
pins: 1 ~{OE}, 2 1D, 3 2D, 4 3D, 5 4D, 6 5D, 7 6D, 8 7D, 9 8D, 10 GND, 11 ~{LE}, 12 8Q, 13 7Q, 14 6Q, 15 5Q, 16 4Q, 17 3Q, 18 2Q, 19 1Q, 20 VCC

## STM8
designator U?, comment STM8 48
单片机
footprint LQFP48_7X7X05P
part A pins: 1 NRST, 2 PA1/OSCIN (io), 3 PA2/OSCOUT (io), 9 TIM3_CH1/TIM2_CH3/PA3 (io), 10 (HS)PA4 (io), 11 (HS)PA5 (io), 12 (HS)PA6 (io), 15 PB7/AIN7 (io), 16 PB6/AIN6 (io), 17 PB5/IIC_SDA/AIN5 (io), 18 PB4/IIC_SCL/AIN4 (io), 19 PB3/TIM1_ETR/AIN3 (io), 20 PB2/TIM1_CH3N/AIN2 (io), 21 PB1/TIM1_CHE2/AIN1 (io), 22 PB0/TIM1_CH1N/AIN0 (io), 23 PE7/AIN8 (io), 24 PE6/AIN9 (io), 25 PE5/SPI/NSS (io), 26 PC1/HS/TIM1_CH1/UART2_CK (io), 27 PC2/HS/TIM1_CH2 (io), 28 PC3/HS/TIM1_CH3 (io), 29 PC4/HS/TIM1_CH4 (io), 30 PC5/HS/SPI_SCK (io), 33 PC6/HS/SPI_MOSI (io), 34 PC7/HS/SPI_MISO (io), 35 PG0 (io), 36 PG1 (io), 37 PE3/TIM1_BKIN (io), 38 PE2/I2C_SDA (io), 39 PE1/I2C_SCL (io), 40 PE0/CLK_CCO (io), 41 PD0/HS/TIM3_CH2 (io), 42 PD1/HS/SWIM (io), 43 PD2/HS/TIM3 (io), 44 PD3/HS (io), 45 PD4/HS (io), 46 PD5/UART2_TX (io), 47 PD6/UART2_RX (io), 48 PD7/TLI/TIM1_CH4 (io)
part B pins: 4 VSSIO_1 (power), 5 VSS, 6 VCAP (power), 7 VDD (power), 8 VDDIO_1 (power), 13 VDDA (power), 14 VSSA (power), 31 VSSIO_2 (power), 32 VDDIO_2 (power)

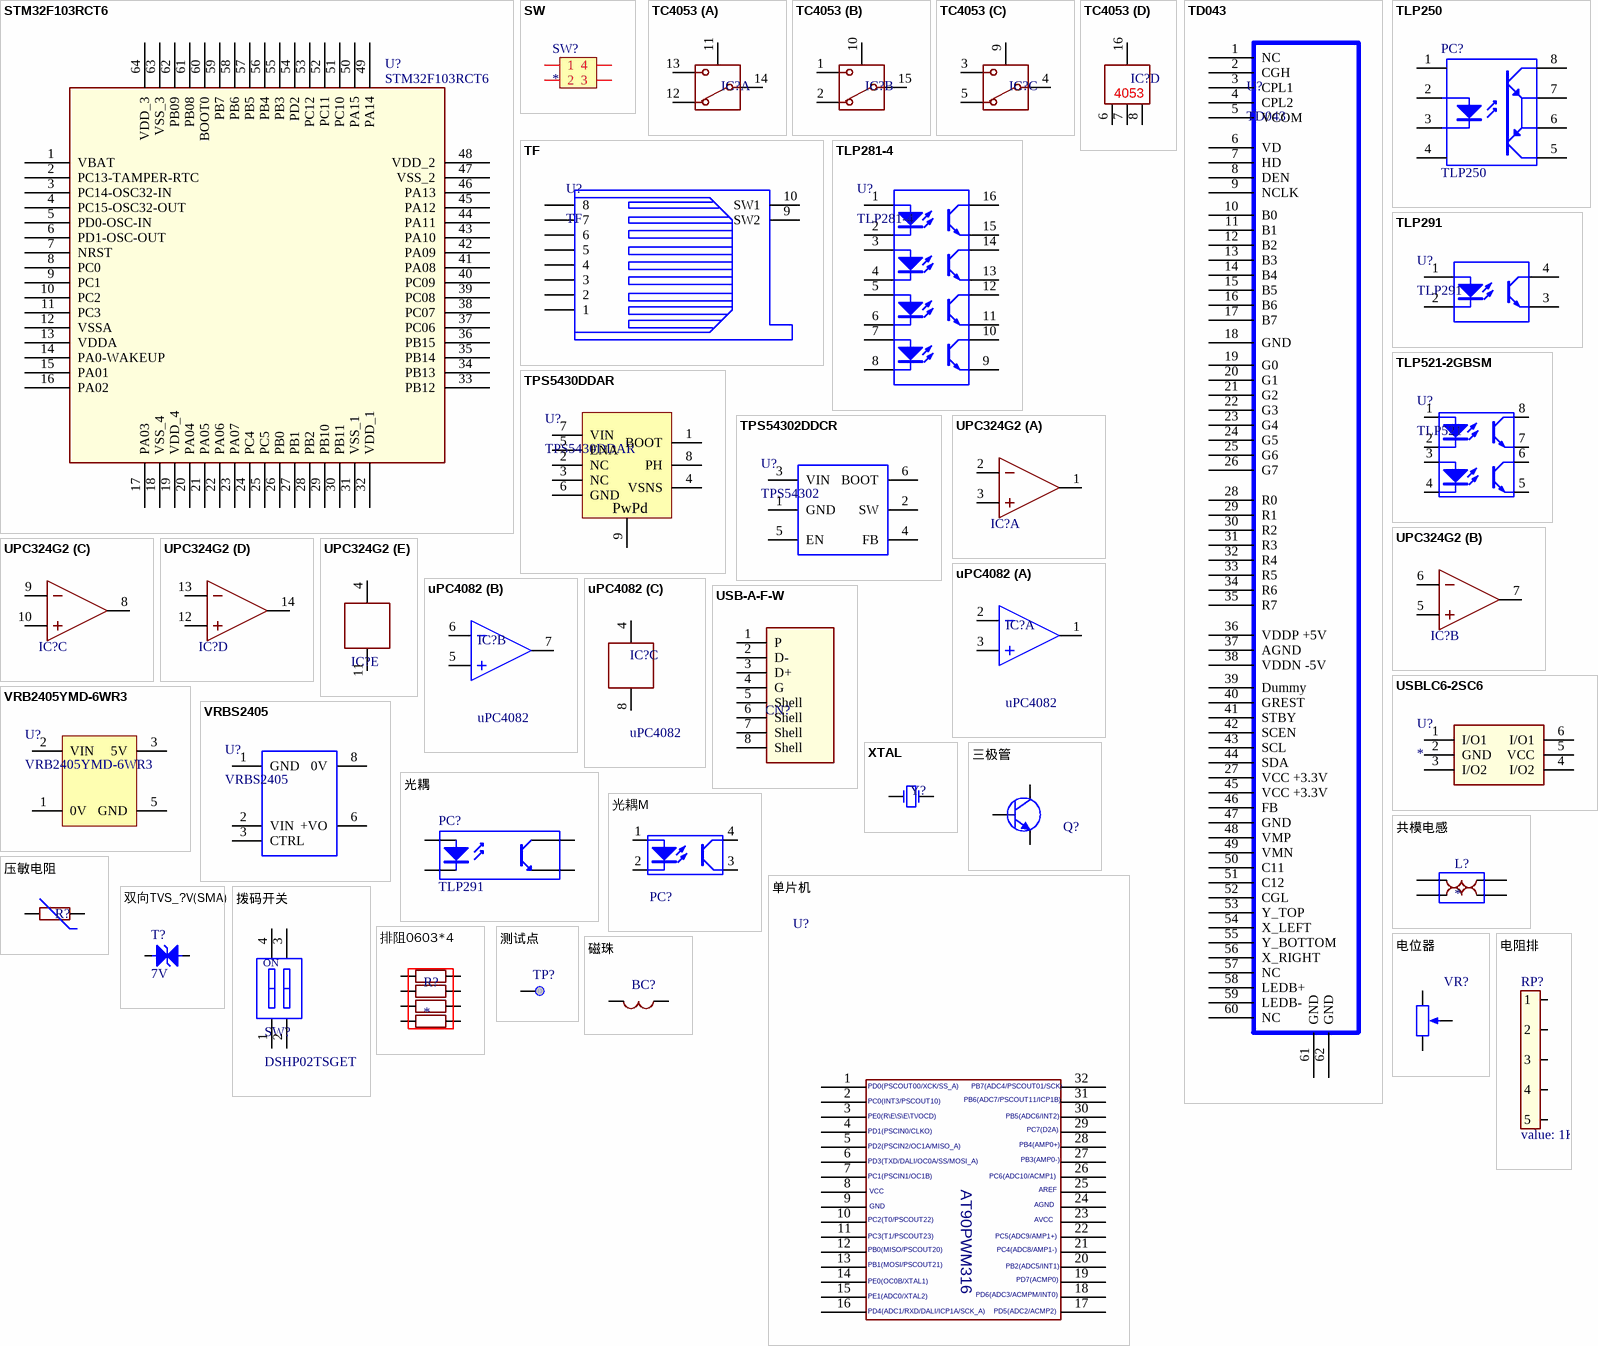
[diagram p3: symbols STM32F103RCT6 to 磁珠]

## STM32F103RCT6
designator U?
STM32 64Pin 256Kb FLASH 32Kb SRAM; PartGroup: Integrated Circuits,MCU, MPU, DSP,ARM MCU; Manufacturer: ATMEL; MPN: SAMC21J18A-AUT; AN: A06-1192; TemperatureRange: -40Â°C to +105Â°C; Design comment: *; Height: 1.20000004768372; Value: STM32F103RCT6
footprint LQFP64 (TSQFP, 64-Leads, Body 12.0x12.0mm (max), Pitch 0.50mm, IPC Medium Density)
pins: 1 VBAT (power), 2 PC13-TAMPER-RTC, 3 PC14-OSC32-IN, 4 PC15-OSC32-OUT, 5 PD0-OSC-IN, 6 PD1-OSC-OUT, 7 NRST, 8 PC0, 9 PC1, 10 PC2, 11 PC3, 12 VSSA (power), 13 VDDA (power), 14 PA0-WAKEUP, 15 PA01, 16 PA02, 17 PA03, 18 VSS_4 (power), 19 VDD_4 (power), 20 PA04, 21 PA05, 22 PA06, 23 PA07, 24 PC4, 25 PC5, 26 PB0, 27 PB1, 28 PB2, 29 PB10, 30 PB11, 31 VSS_1, 32 VDD_1, 33 PB12, 34 PB13, 35 PB14, 36 PB15, 37 PC06, 38 PC07, 39 PC08, 40 PC09, 41 PA08, 42 PA09, 43 PA10, 44 PA11, 45 PA12, 46 PA13, 47 VSS_2 (power), 48 VDD_2 (power), 49 PA14, 50 PA15, 51 PC10, 52 PC11, 53 PC12, 54 PD2, 55 PB3, 56 PB4, 57 PB5, 58 PB6, 59 PB7, 60 BOOT0, 61 PB08, 62 PB09, 63 VSS_3, 64 VDD_3

## SW
designator SW?
SW
footprint 开关2-2
pins: 1, 2, 3, 4

## TC4053
designator IC?  (value not drawn)
集成块; 研究所: TC4053BFELF
footprint 运放SOP16 (Small Outli)
part A pins: 11, 12, 13, 14
part B pins: 1, 2, 10, 15
part C pins: 3, 4, 5, 9
part D pins: 6, 7, 8, 16
part D text: 4053

## TD043
designator U?
footprint FPC-0.5-60-H
pins: 1 NC, 2 CGH, 3 CPL1, 4 CPL2, 5 VCOM, 6 VD, 7 HD, 8 DEN, 9 NCLK, 10 B0, 11 B1, 12 B2, 13 B3, 14 B4, 15 B5, 16 B6, 17 B7, 18 GND, 19 G0, 20 G1, 21 G2, 22 G3, 23 G4, 24 G5, 25 G6, 26 G7, 27 VCC +3.3V, 28 R0, 29 R1, 30 R2, 31 R3, 32 R4, 33 R5, 34 R6, 35 R7, 36 VDDP +5V, 37 AGND, 38 VDDN -5V, 39 Dummy, 40 GREST, 41 STBY, 42 SCEN, 43 SCL, 44 SDA, 45 VCC +3.3V, 46 FB, 47 GND, 48 VMP, 49 VMN, 50 C11, 51 C12, 52 CGL, 53 Y_TOP, 54 X_LEFT, 55 Y_BOTTOM, 56 X_RIGHT, 57 NC, 58 LEDB+, 59 LEDB-, 60 NC, 61 GND, 62 GND

## TF
designator U?
footprint TF
footprint TF
pins: 1, 2, 3, 4, 5, 6, 7, 8, 9 SW2, 10 SW1

## TLP250
designator PC?
光耦
footprint Dip8
footprint SOP-8
pins: 1, 2, 3, 4, 5, 6, 7, 8

## TLP281-4
designator U?
footprint SOIC127P700X210-16M
pins: 1 "Anode", 2 "Cathode", 3 "Anode", 4 "Cathode", 5 "Anode", 6 "Cathode", 7 "Anode", 8 "Cathode", 9 "Emitter", 10 "Collector", 11 "Emitter", 12 "Collector", 13 "Emitter", 14 "Collector", 15 "Emitter", 16 "Collector"

## TLP291
designator U?
footprint sop-4
pins: 1 "Anode", 2 "Cathode", 3 "Emitter", 4 "Collector"

## TLP521-2GBSM
designator U?, comment TLP521
footprint SOP-8
pins: 1 "Anode", 2 "Cathode", 3 "Anode", 4 "Cathode", 5 "Emitter", 6 "Collector", 7 "Emitter", 8 "Collector"

## TPS5430DDAR
designator U?
footprint TPS5430
pins: 1 BOOT, 2 NC, 3 NC, 4 VSNS, 5 ENA, 6 GND, 7 VIN, 8 PH, 9 PwPd

## TPS54302DDCR
designator U?, comment TPS54302
footprint SOT-23-6
pins: 1 GND, 2 SW, 3 VIN, 4 FB, 5 EN, 6 BOOT

## UPC324G2
designator IC?  (value not drawn)
集成块; 研究所: UPC324G2
footprint 运放SO14 (Smal)
part A pins: 1, 2, 3
part B pins: 5, 6, 7
part C pins: 8, 9, 10
part D pins: 12, 13, 14
part E pins: 4, 11

## uPC4082
designator IC?
Low-Power Dual Voltage Comparator; Published: 24-Aug-2001; LatestRevisionDate: 13-Apr-2006; LatestRevisionNote: IPC-7351 Footprint Added.; DatasheetVersion: Jun-1998; PackageVersion: Dec-2002; PackageReference: SO8; Publisher: Altium Limited; PackageDescription: 8-Pin Small Outline Integrated Circuit 1.27 mm Pitch; Code_JEDEC: MS-012-AA; Code_IPC: SOIC127P600-8; ComponentLink1Description: Manufacturer Link; ComponentLink1URL: http://www.st.com/; ComponentLink2Description: Datasheet; ComponentLink2URL: http://www.st.com/stonline/products/literature/ds/2164/lm293.pdf
footprint 运放SO8 (Smal)
part A pins: 1 OUT (oc), 2 IN-, 3 IN+
part B pins: 5 IN+, 6 IN-, 7 OUT (oc)
part C pins: 4, 8

## USB-A-F-W
designator CN?  (value not drawn)
footprint USB-A
footprint USB-C (立式USB)
pins: 1 P, 2 D-, 3 D+, 4 G, 5 Shell, 6 Shell, 7 Shell (power), 8 Shell (power)

## USBLC6-2SC6
designator U?
footprint SOT-23-6
pins: 1 I/O1, 2 GND, 3 I/O2, 4 I/O2, 5 VCC, 6 I/O1

## VRB2405YMD-6WR3
designator U?
footprint VRB2405YMD-6WR3 (金升阳DC模块)
pins: 1 0V, 2 VIN, 3 5V, 4 NC hidden, 5 GND

## VRBS2405
designator U?
footprint VRB_S
pins: 1 GND, 2 VIN, 3 CTRL, 5 NC hidden, 6 +VO, 7 NC hidden, 8 0V

## XTAL
designator Y?  (value not drawn)
无源晶振贴装; Published: 8-Jun-2000; LatestRevisionDate: 17-Jul-2002; LatestRevisionNote: Re-released for DXP Platform.; PackageReference: R38; Publisher: Altium Limited
footprint 晶振
footprint XTAL_0503_2Pin
pins: 1 OSC1, 2 OSC2

## 三极管
designator Q?, comment 1318  (value not drawn)
三极管; Published: 8-Jun-2000; LatestRevisionDate: 17-Jul-2002; LatestRevisionNote: Re-released for DXP Platform.; PackageReference: TO-226; Publisher: Altium Limited; Code_JEDEC: TO-226-AA
footprint SOT-23
pins: 1 B, 2 E, 3 C

## 光耦
designator PC?, comment TLP291
光耦
footprint SO4
pins: 1, 2, 3, 4

## 光耦M
designator PC?  (value not drawn)
4-Pin Phototransistor Optocoupler; Published: 24-Mar-1999; LatestRevisionDate: 04-Mar-2005; LatestRevisionNote: Sch pins 3 & 4 Swapped.; DatasheetDocument: Nov-2003; PackageReference: DIP-4; Publisher: Altium Limited
footprint 光耦4
pins: 1 "Anode", 2 "Cathode", 3 "Emitter", 4 "Collector"

## 共模电感
designator L?
footprint 2012 (2.0x1.2x1.0 共模电感)
pins: 1, 2, 3, 4

## 单片机
designator U?  (value not drawn)
Value: AT90PWM316; Published: 8-Jun-2000; LatestRevisionDate: 17-Jul-2002; LatestRevisionNote: Re-released for DXP Platform.; PackageReference: AXIAL-0.4; Publisher: Altium Limited
footprint 运放SOP32 (Small Outline; 8 Leads; Body Width 3.9 mm; Pitch 1.27 mm)
pins: 1, 2, 3, 4, 5, 6, 7, 8, 9, 10, 11, 12, 13, 14, 15, 16, 17, 18, 19, 20, 21, 22, 23, 24, 25, 26, 27, 28, 29, 30, 31, 32
text: PD0(PSCOUT00/XCK/SS_A); PB7(ADC4/PSCOUT01/SCK); PB6(ADC7/PSCOUT11/ICP1B); PC0(INT3/PSCOUT10); PE0(R\E\S\E\T\/OCD); PB5(ADC6/INT2); PC7(D2A); PD1(PSCIN0/CLKO); PB4(AMP0+); PD2(PSCIN2/OC1A/MISO_A); PB3(AMP0-); PD3(TXD/DALI/OC0A/SS/MOSI_A); PC1(PSCIN1/OC1B); PC6(ADC10/ACMP1); AREF; VCC; AGND; GND; PC2(T0/PSCOUT22); AVCC; PC3(T1/PSCOUT23); PC5(ADC9/AMP1+); PB0(MISO/PSCOUT20); PC4(ADC8/AMP1-); PB1(MOSI/PSCOUT21); PB2(ADC5/INT1); PD7(ACMP0); PE0(OC0B/XTAL1); PD6(ADC3/ACMPM/INT0); PE1(ADC0/XTAL2); PD4(ADC1/RXD/DALI/ICP1A/SCK_A); PD5(ADC2/ACMP2)

## 压敏电阻
designator R?, comment 10d330K  (value not drawn)
压敏电阻; 松下: RS05K101FT; 松下: RS05000FT; 松下: RS05K3321FT; 松下: RS05K6811FT; 松下: RS05K102FT; 松下: RS05K2211FT; 松下: RS05K103FT; 松下: RS05K5111FT; 松下: RS05K5110FT; 松下: RS05K5112FT; 松下: RS05K8251FT; 松下: RS05K2212FT; 松下: RS05K104FT; 松下: RS05K5113FT; 松下: RS05K105FT; 松下: RS05L106FT; 研究所: 贴装电阻_0805_0_F1%; 研究所: 贴装电阻_0805_100_F1%; 研究所: 贴装电阻_0805_51.1K_F1%; 研究所: 贴装电阻_0805_1K_F1%; 研究所: 贴装电阻_0805_2.21K_F1%; 研究所: 贴装电阻_0805_3.32K_F1%; 研究所: 贴装电阻_0805_5.11K_F1%; 研究所: 贴装电阻_0805_511K_F1%; 研究所: 贴装电阻_0805_6.81K_F1%; 研究所: 贴装电阻_0805_511_F1%; 研究所: 贴装电阻_0805_8.25K_F1%; 研究所: 贴装电阻_0805_10K_F1%; 研究所: 贴装电阻_0805_22.1K_F1%; 研究所: 贴装电阻_0805_100K_F1%; 研究所: 贴装电阻_0805_1M_F1%; 研究所: 贴装电阻_0805_10M_F1%
footprint RAD0.2 (压敏电阻10d)
pins: 1, 2

## 双向TVS_?V(SMA)
designator T?, comment 7V
双向TVS_?V(SMA); 名称: 贴装元件_双向TVS_7V(SMA)
footprint 二极管SMA (Magnetic-Core Inductor with Windin)
pins: A, K

## 拨码开关
designator SW?, comment DSHP02TSGET
footprint DSHP02TSGET (拨码开关2p 1.27mm)
pins: 1 A1, 2 A2, 3 B2, 4 B1
text: ON

## 排阻0603*4
designator R?
贴片排阻
footprint 0603X4
pins: 1, 2, 3, 4, 5, 6, 7, 8

## 测试点
designator TP?  (value not drawn)
松下: J1/4VTPA
footprint 测试点
footprint 标示Mark
pins: 1

## 电位器
designator VR?  (value not drawn)
松下: CT-6ETV502; 松下: CT-6ETV103; 松下: CT-6ETV203
footprint 电位器
pins: 1 TOP, 2 TAP, 3 BOT

## 电阻排
designator RP?, comment value 1K  (hidden comment: 473)
Isolated Resistor Network; Published: 24-Mar-1999; LatestRevisionDate: 17-Jul-2002; LatestRevisionNote: Re-released for DXP Platform.; PackageReference: SSOP16; Publisher: Altium Limited; Code_JEDEC: MO-150-AC
footprint 电阻排5-41
pins: 1, 2, 3, 4, 5

## 磁珠
designator BC?  (value not drawn)
松下: EXCELDR35V
footprint 磁珠
footprint GDRH127 (功率电感)
footprint LSMD8-10X10
footprint 4020 (40*40*20)
pins: 1, 2

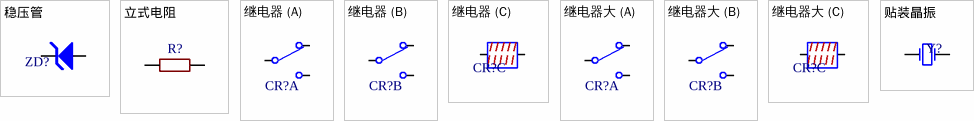
[diagram p4: symbols 稳压管 to 贴装晶振]

## 稳压管
designator ZD?
稳压管
footprint 稳压管5AK+
footprint 二极管SMA (Magnetic-Core Inductor with Windin)
footprint 二极管SOD-123
pins: A, K

## 立式电阻
designator R?
电阻
footprint 电阻5立式
footprint 电阻立式水泥
pins: 1, 2

## 继电器
designator CR?
继电器; Published: 24-Mar-1999; LatestRevisionDate: 17-Jul-2002; LatestRevisionNote: Re-released for DXP Platform.; PackageReference: DIP-P8; Publisher: Altium Limited
footprint 继电器8
part A pins: 4, 6, 8
part B pins: 9, 11, 13
part C pins: +, -
1 alternate drawing of the same symbol

## 继电器大
designator CR?, comment LY2-J  (value not drawn)
继电器; Published: 24-Mar-1999; LatestRevisionDate: 17-Jul-2002; LatestRevisionNote: Re-released for DXP Platform.; PackageReference: DIP-P8; Publisher: Altium Limited
footprint 继电器8
footprint 继电器RH2B
part A pins: 2, 4, 6
part B pins: 1, 3, 5
part C pins: 7, 8
1 alternate drawing of the same symbol

## 贴装晶振
designator Y?  (value not drawn)
Crystal Oscillator; Published: 8-Jun-2000; LatestRevisionDate: 17-Jul-2002; LatestRevisionNote: Re-released for DXP Platform.; PackageReference: R38; Publisher: Altium Limited
footprint SMD4_5X32
pins: 1 OSC1, 2 hidden, 3 OSC2, 4 hidden